# Altium schematic symbol library 55917-001LF.SchLib: 1 symbol
Pins are listed as number, name and electrical type; pins without a type are passive.

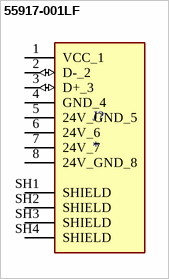
[diagram p0: symbol 55917-001LF]

## 55917-001LF
designator J?
MP: 55917-001LF; Availability: Unavailable; Value: *; Package: None; Price: None
footprint AMPHENOL_55917-001LF
pins: 1 VCC_1 (power), 2 D-_2 (io), 3 D+_3 (io), 4 GND_4 (power), 5 24V_GND_5 (power), 6 24V_6 (power), 7 24V_7 (power), 8 24V_GND_8 (power), SH1 SHIELD, SH2 SHIELD, SH3 SHIELD, SH4 SHIELD